# Altium schematic symbol library 61304021121.SchLib: 2 symbols
Pins are listed as number, name and electrical type; pins without a type are passive.

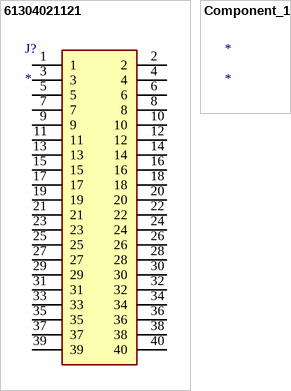
[diagram p0: symbols 61304021121 to Component_1]

## 61304021121
designator J?
Connector; Manufacturer_Name: Wurth Elektronik; Manufacturer_Part_Number: 61304021121; Datasheet Link: https://katalog.we-online.com/em/datasheet/6130xx21121.pdf; Height: 8.69mm; Mouser Part Number: 710-61304021121; Mouser Price/Stock: https://www.mouser.co.uk/ProductDetail/Wurth-Elektronik/61304021121?qs=PhR8RmCirEYWKI5WqdDUyg%3D%3D
footprint HDRV40W64P254X254_2X20_5080X508X869P
pins: 1, 2, 3, 4, 5, 6, 7, 8, 9, 10, 11, 12, 13, 14, 15, 16, 17, 18, 19, 20, 21, 22, 23, 24, 25, 26, 27, 28, 29, 30, 31, 32, 33, 34, 35, 36, 37, 38, 39, 40

## Component_1
designator *